# Altium footprint library AS4C4M16S-6BIN.PcbLib: 1 footprints
Each footprint in its own frame and in the unit in brackets; x right, y up, seen from the top. Pads: shape width x height; smd on the part's side, far side on the other; paste and mask are expansions set on the pad; w line width, h text height; cw(c..) or ccw(c..) is an arc to the next point about the centre after c.
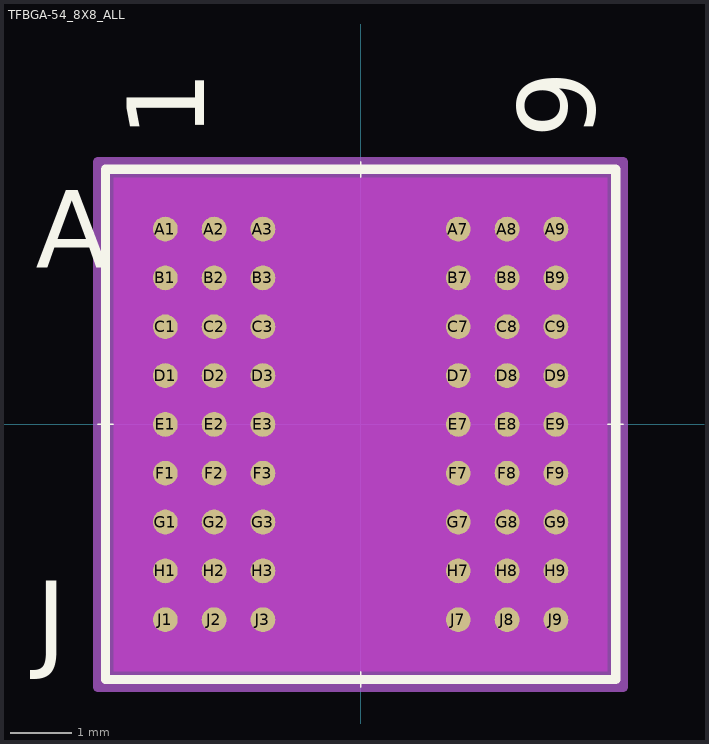
[diagram p0: the footprint, top view; thin cyan lines are the x and y axes]

## TFBGA-54_8X8_ALL [mil]
pads (54):
  round 16 smd paste+0 mask+0: A1(-125.98,125.98) A2(-94.49,125.98) A3(-62.99,125.98) A7(62.99,125.98) A8(94.49,125.98) A9(125.98,125.98) B1(-125.98,94.49) B2(-94.49,94.49) B3(-62.99,94.49) B7(62.99,94.49) B8(94.49,94.49) B9(125.98,94.49) C1(-125.98,62.99) C2(-94.49,62.99) C3(-62.99,62.99) C7(62.99,62.99) C8(94.49,62.99) C9(125.98,62.99) D1(-125.98,31.5) D2(-94.49,31.5) D3(-62.99,31.5) D7(62.99,31.5) D8(94.49,31.5) D9(125.98,31.5) E1(-125.98,0) E2(-94.49,0) E3(-62.99,0) E7(62.99,0) E8(94.49,0) E9(125.98,0) F1(-125.98,-31.5) F2(-94.49,-31.5) F3(-62.99,-31.5) F7(62.99,-31.5) F8(94.49,-31.5) F9(125.98,-31.5) G1(-125.98,-62.99) G2(-94.49,-62.99) G3(-62.99,-62.99) G7(62.99,-62.99) G8(94.49,-62.99) G9(125.98,-62.99) H1(-125.98,-94.49) H2(-94.49,-94.49) H3(-62.99,-94.49) H7(62.99,-94.49) H8(94.49,-94.49) H9(125.98,-94.49) J1(-125.98,-125.98) J2(-94.49,-125.98) J3(-62.99,-125.98) J7(62.99,-125.98) J8(94.49,-125.98) J9(125.98,-125.98)
Top Overlay:
  lines w1: -169.5,0 -159.5,0 ; 0,-169.5 0,-159.5 ; 0,159.5 0,169.5 ; 159.5,0 169.5,0
  lines w6: -164.5,-164.5 164.5,-164.5 164.5,164.5 -164.5,164.5 -164.5,-164.5
  text "A" at -209.5,100.98 h50
  text "J" at -209.5,-150.98 h50
  text "1" at -100.98,184.5 h50
  text "9" at 150.98,184.5 h50
Bottom Overlay:
  text "A" at -184.5,100.98 h50
  text "J" at -184.5,-150.98 h50
  text "1" at -150.98,184.5 h50
  text "9" at 100.98,184.5 h50
Keep-Out Layer:
  region: -159.23,-159.23 -159.23,159.23 159.23,159.23 159.23,-159.23
Mechanical 13:
  lines w1: -159.5,143.75 -143.75,159.5 ; -159.5,-159.5 159.5,-159.5 159.5,159.5 -159.5,159.5 -159.5,-159.5
  text "A" at -209.5,100.98 h50
  text "J" at -209.5,-150.98 h50
  text "1" at -100.98,184.5 h50
  text "9" at 150.98,184.5 h50
Mechanical 15:
  region: 169.5,-169.5 -169.5,-169.5 -169.5,169.5 169.5,169.5
  lines w6: -169.5,-169.5 -169.5,169.5 169.5,169.5 169.5,-169.5 -169.5,-169.5
3D body "TFBGA-54_8X8_ALL.step": height 47.09, standoff -0.01, extent -159.49,-159.49 159.49,159.49